# Altium footprint library IND-SMD_3P-L27.9-W19.7-P10.43-LS27.9-BL-A.PcbLib: 1 footprints
Each footprint in its own frame and in the unit in brackets; x right, y up, seen from the top. Pads: shape width x height; smd on the part's side, far side on the other; paste and mask are expansions set on the pad; w line width, h text height; cw(c..) or ccw(c..) is an arc to the next point about the centre after c.
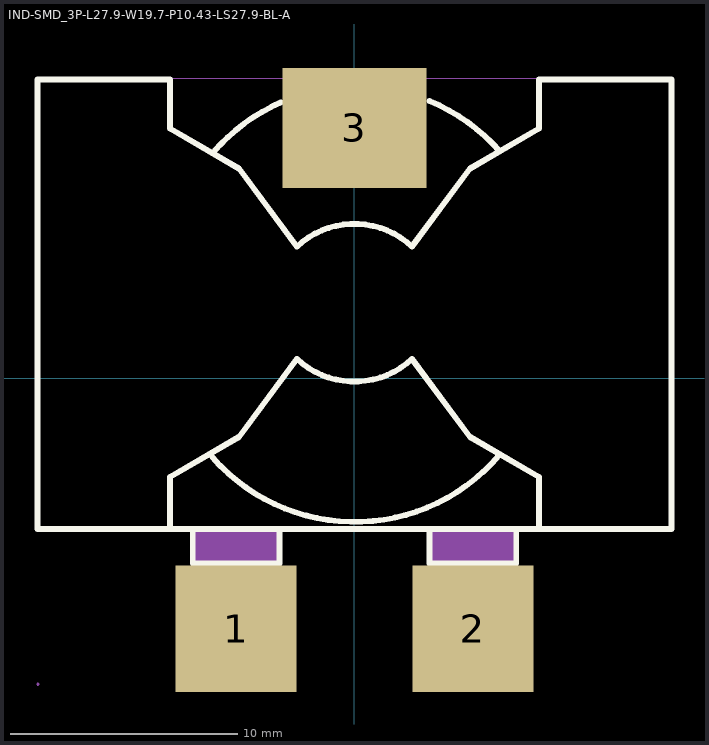
[diagram p0: the footprint, top view; thin cyan lines are the x and y axes]

## IND-SMD_3P-L27.9-W19.7-P10.43-LS27.9-BL-A [mm]
pads (3):
  rect 5.33x5.59 smd: 1(-5.215,-11.038) 2(5.215,-11.038)
  rect 6.35x5.28 smd: 3(0,11.038)
Top Overlay:
  lines w0.254: -8.128,-6.513 -8.128,-4.354 -5.08,-2.576 -2.54,0.853 ccw(c0,3.586) 2.54,0.853 5.08,-2.576 8.128,-4.354 8.128,-6.513 ; -7.128,-6.639 -7.128,-8.163 -3.302,-8.163 -3.302,-6.639 ; -6.272,-3.472 ccw(c0.018,2.024) 6.381,-3.388 ; -6.254,9.922 cw(c0.108,4.509) -3.234,12.165 ; 3.302,-6.639 3.302,-8.163 7.128,-8.163 7.128,-6.639 ; 3.308,12.225 cw(c0.108,4.509) 6.399,10.006 ; -13.97,-6.639 13.97,-6.639 13.97,13.173 8.128,13.173 8.128,11.014 5.08,9.236 2.54,5.807 ccw(c0,3.075) -2.54,5.807 -5.08,9.236 -8.128,11.014 -8.128,13.173 -13.97,13.173 -13.97,-6.639
Mechanical 6:
  circle w1.2: c-5.25,-12.05 r0.6
Mechanical 15:
  region: -1.9,9.417 -1.9,13.217 1.9,13.217 1.9,9.417
  region: 3.315,-10.493 3.315,-6.573 7.115,-6.573 7.115,-10.493
  region: 3.315,-13.483 3.315,-9.683 7.115,-9.683 7.115,-13.483
  region: -7.115,-10.493 -7.115,-6.573 -3.315,-6.573 -3.315,-10.493
  region: -7.115,-13.483 -7.115,-9.683 -3.315,-9.683 -3.315,-13.483
  region: -13.89,-13.483 -13.89,-13.458 -13.925,-13.423 -13.975,-13.423 -14.01,-13.458 -14.01,-13.483 -14.01,-13.507 -13.975,-13.543 -13.925,-13.543 -13.89,-13.507 -13.89,-13.483
  lines w0.051: -13.95,-6.583 13.95,-6.583 13.95,13.217 -13.95,13.217 -13.95,-6.583